# Altium footprint library KGM21NR71H104KT.PcbLib: 3 footprints
Each footprint in its own frame and in the unit in brackets; x right, y up, seen from the top. Pads: shape width x height; smd on the part's side, far side on the other; paste and mask are expansions set on the pad; w line width, h text height; cw(c..) or ccw(c..) is an arc to the next point about the centre after c.
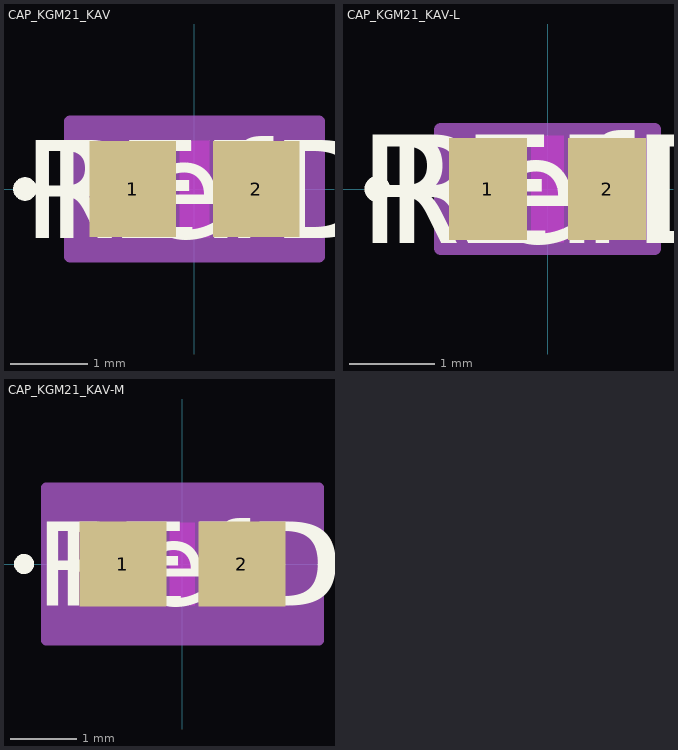
[diagram p0: the footprints below, top view; thin cyan lines are the x and y axes]

## CAP_KGM21_KAV [mil]
pads (2):
  rect 44x49 smd paste+0 mask+0: 1(-31.5,0) 2(31.5,0)
Top Layer keep-out:
  region: -7.5,-22.5 -7.5,22.5 7.5,22.5 7.5,-22.5
Top Overlay:
  circle w6: c-86.5,0 r3
  text "RefDes" at -75,-25 h50
  text "REFDES" at -87.5,-25 h50
Keep-Out Layer:
  region: -7.5,-24.5 -7.5,24.5 7.5,24.5 7.5,-24.5
Mechanical 13:
  circle w0: c-26.5,0 r3
  lines w1: -39.5,-24.5 -39.5,24.5 ; -39.5,-24.5 -9.5,-24.5 -9.5,24.5 -39.5,24.5 ; -39.5,-24.5 39.5,-24.5 ; -39.5,-24.5 -39.5,24.5 ; -39.5,24.5 39.5,24.5 ; 39.5,-24.5 9.5,-24.5 9.5,24.5 39.5,24.5 ; 39.5,-24.5 39.5,24.5 ; 39.5,-24.5 39.5,24.5
  text "RefDes2" at -87.5,-25 h50
Mechanical 15:
  region: 63.5,-34.5 -63.5,-34.5 -63.5,34.5 63.5,34.5
  lines w6: -63.5,-34.5 -63.5,34.5 63.5,34.5 63.5,-34.5 -63.5,-34.5
3D body "CAP_KGM21_KAV.step": height 39.02, standoff 0, extent -39.49,-24.49 39.49,24.49

## CAP_KGM21_KAV-L [mil]
pads (2):
  rect 36x47 smd paste+0 mask+0: 1(-27.5,0) 2(27.5,0)
Top Layer keep-out:
  region: -7.5,-22.5 -7.5,22.5 7.5,22.5 7.5,-22.5
Top Overlay:
  circle w6: c-78.5,0 r3
  text "RefDes" at -75,-25 h50
  text "REFDES" at -87.5,-25 h50
Keep-Out Layer:
  region: -7.5,-24.5 -7.5,24.5 7.5,24.5 7.5,-24.5
Mechanical 13:
  circle w0: c-22.5,0 r3
  lines w1: -39.5,-24.5 -39.5,24.5 ; -39.5,-24.5 -9.5,-24.5 -9.5,24.5 -39.5,24.5 ; -39.5,-24.5 39.5,-24.5 ; -39.5,-24.5 -39.5,24.5 ; -39.5,24.5 39.5,24.5 ; 39.5,-24.5 9.5,-24.5 9.5,24.5 39.5,24.5 ; 39.5,-24.5 39.5,24.5 ; 39.5,-24.5 39.5,24.5
  text "RefDes2" at -87.5,-25 h50
Mechanical 15:
  region: 49.5,-27.5 -49.5,-27.5 -49.5,27.5 49.5,27.5
  lines w6: -49.5,-27.5 -49.5,27.5 49.5,27.5 49.5,-27.5 -49.5,-27.5
3D body "CAP_KGM21_KAV.step": height 39.02, standoff 0, extent -39.49,-24.49 39.49,24.49

## CAP_KGM21_KAV-M [mil]
pads (2):
  rect 52x51 smd paste+0 mask+0: 1(-35.5,0) 2(35.5,0)
Top Layer keep-out:
  region: -7.5,-22.5 -7.5,22.5 7.5,22.5 7.5,-22.5
Top Overlay:
  circle w6: c-94.5,0 r3
  text "RefDes" at -75,-25 h50
  text "REFDES" at -87.5,-25 h50
Keep-Out Layer:
  region: -7.5,-24.5 -7.5,24.5 7.5,24.5 7.5,-24.5
Mechanical 13:
  circle w0: c-30.5,0 r3
  lines w1: -39.5,-24.5 -39.5,24.5 ; -39.5,-24.5 -9.5,-24.5 -9.5,24.5 -39.5,24.5 ; -39.5,-24.5 39.5,-24.5 ; -39.5,-24.5 -39.5,24.5 ; -39.5,24.5 39.5,24.5 ; 39.5,-24.5 9.5,-24.5 9.5,24.5 39.5,24.5 ; 39.5,-24.5 39.5,24.5 ; 39.5,-24.5 39.5,24.5
  text "RefDes2" at -87.5,-25 h50
Mechanical 15:
  region: 81.5,-45.5 -81.5,-45.5 -81.5,45.5 81.5,45.5
  lines w6: -81.5,-45.5 -81.5,45.5 81.5,45.5 81.5,-45.5 -81.5,-45.5
3D body "CAP_KGM21_KAV.step": height 39.02, standoff 0, extent -39.49,-24.49 39.49,24.49